# EAGLE library part IC/TD62003AFG (library MyParts)
3V / 35mW dual power amplifier
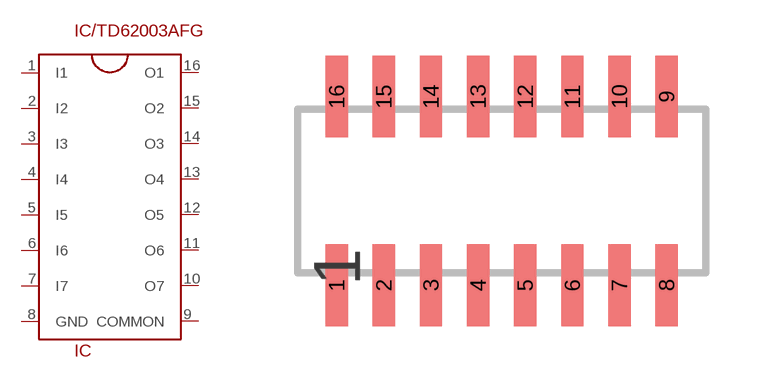
[diagram p2: symbol with the pads of IC/TD62003AFG; footprint IC/TD62003AFG]

Designator prefix IC

## IC/TD62003AFG  [IC/TD62003AFG]
1  I1  in
2  I2  nc
3  I3  nc
4  I4  nc
5  I5  nc
6  I6  nc
7  I7  nc
8  GND
9  COMMON  pwr
10  O7  nc
11  O6  nc
12  O5  nc
13  O4  out
14  O3  out
15  O2  out
16  O1  out

## Footprint IC/TD62003AFG (pad centres in mm)
smd 0.6 x 2.2: 1 -4.445,-2.54; 2 -3.175,-2.54; 3 -1.905,-2.54; 4 -0.635,-2.54; 5 0.635,-2.54; 6 1.905,-2.54; 7 3.175,-2.54; 8 4.445,-2.54; 9 4.445,2.54; 10 3.175,2.54; 11 1.905,2.54; 12 0.635,2.54; 13 -0.635,2.54; 14 -1.905,2.54; 15 -3.175,2.54; 16 -4.445,2.54